# EAGLE library part LTC3672B-2 (library PowerProducts)
LT-Spice library generated with : ltspice.ulp from: D:/Program Files (x86)/LTC/LTspiceIV/lib/sym/PowerProducts/LTC3700*.asy at 07.10.2012 18:28:38
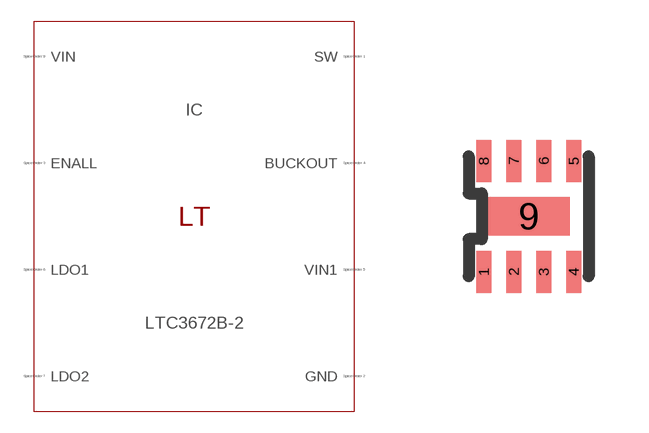
[diagram p278: symbol with the pads of DFN8(DC); footprint DFN8(DC)]

Designator prefix IC

## LTC3672B-2 (SPICEMODEL: LTC3672B-2.sub; SPICEPREFIX: X; VALUE2: LTC3672B-2)  [DFN8(DC)]
1  SW  pas
2  GND  pas
3  ENALL  pas
4  BUCKOUT  pas
5  VIN1  pas
6  LDO1  pas
7  LDO2  pas
8  VIN  pas
9  GND  pas

## Footprint DFN8(DC) (pad centres in mm)
Package generated from: DFN8(DC).asc (!PADS-POWERPCB-V5.0-BASIC! DESIGN DATABASE ASCII FILE 1.0) with :import-pads-powerpcb-v5.ulp Version 1.0.1 at 04.10.2012 14:11:17
smd 0.375 x 1.05: 1 -1.125,-1.387; 2 -0.375,-1.387; 3 0.375,-1.387; 4 1.125,-1.387; 5 1.125,1.387; 6 0.375,1.387; 7 -0.375,1.387; 8 -1.125,1.387
smd 2.055 x 0.96: 9 0,0